# EAGLE library part 61000821121 (library Board_to_Board_Connectors_rev15d)
WR-PHD 2.54mm Dual SMT Pin Header, 8 Pins =>Code : Con_BTB_PHD_2.54_2_61000821121 <http://katalog.we-online.de/media/images/eican/Con_BTB_PHD_2.54_2_6100xx21121_pf2.jpg> Details see: http://katalog.we-online.de/en/em/610_0xx_211_21 Created 2014-05-29, Karrer Zheng 2014 (C) Würth Elektronik
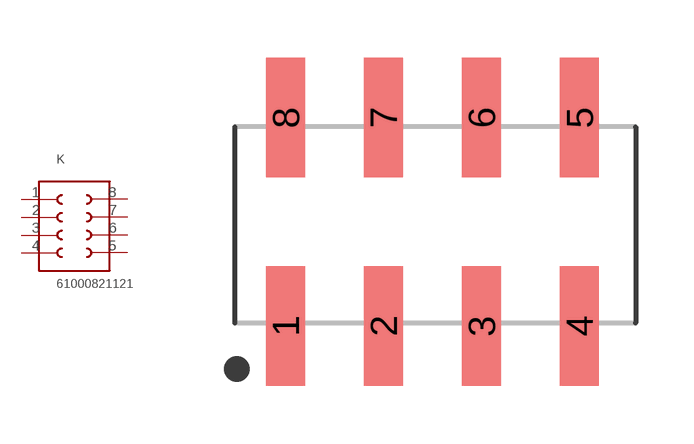
[diagram p74: symbol with the pads of 61000821121; footprint 61000821121]

Designator prefix K

## 61000821121  [61000821121]
1  1  pas
2  2  pas
3  3  pas
4  4  pas
5  5  pas
6  6  pas
7  7  pas
8  8  pas

## Footprint 61000821121 (pad centres in mm)
WR-PHD 2.54mm Dual SMT Pin Header, 8 Pins
smd 1 x 3.1: 1 -6.35,-2.7; 2 -3.81,-2.7; 3 -1.27,-2.7; 4 1.27,-2.7; 5 1.27,2.7; 6 -1.27,2.7; 7 -3.81,2.7; 8 -6.35,2.7